# EAGLE library part UCC2946DTR (library UCC2946DTR)
Microprocessor Supervisor with Watchdog Timer Source: Datasheet <http://www.ti.com/lit/gpn/UCC2946>
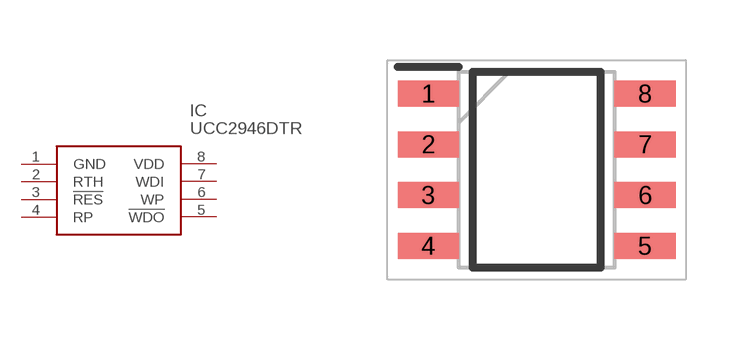
[diagram p0: symbol with the pads of SOIC127P600X175-8N; footprint SOIC127P600X175-8N]

Designator prefix IC

## UCC2946DTR (Description: Microprocessor Supervisor with Watchdog Timer; Height: 1.75mm; Manufacturer_Name: Texas Instruments; Manufacturer_Part_Number: UCC2946DTR; Mouser_Part_Number: 595-UCC2946DTR; Mouser_Price-Stock: https://www.mouser.co.uk/ProductDetail/Texas-Instruments/UCC2946DTR?qs=eJkN62t4xTUCNkQ98mH6MA%3D%3D)  [SOIC127P600X175-8N]
1  GND
2  RTH
3  !RES
4  RP
5  !WDO
6  WP
7  WDI
8  VDD

## Footprint SOIC127P600X175-8N (pad centres in mm)
D0008A SOIC
smd 1.528 x 0.65: 1 -2.711,1.905; 2 -2.711,0.635; 3 -2.711,-0.635; 4 -2.711,-1.905; 5 2.711,-1.905; 6 2.711,-0.635; 7 2.711,0.635; 8 2.711,1.905